# Altium schematic symbol library Diode_Schottky.Schlib: 1 symbol
Pins are listed as number, name and electrical type; pins without a type are passive.

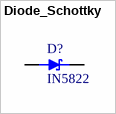
[diagram p0: symbol Diode_Schottky]

## Diode_Schottky
designator D?, comment IN5822
Maximum Current: ?A
footprint Diode_Fat
footprint Schottky Diode SMD FAIRCHILD (Molded Diode, 2-Leads, Body 4.38x2.73mm, IPC Medium Density)
footprint Schottky Diode SOD323 CENTRAL SEMI (SODFL, 2-Leads, Body 1.25x2.50mm, IPC Medium Density)
pins: 1, 2